# Altium integrated library 1623451-1.IntLib: 1 symbol
Pins are listed as number, name and electrical type; pins without a type are passive.

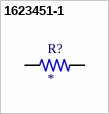
[diagram p0: symbol 1623451-1]

## 1623451-1
designator R?
CRG1206 1% 1M5; MP: 1623451-1; Package: None; Price: None; Value: *; Availability: Unavailable
footprint RESC3115X65N
pins: 1, 2